# EAGLE library part FH12-20S-0.5SH (library CON-Hirose-AON)
0.5mm Pitch Bottom Contact Type exoport UI package je dodrbane posun 0,03mm a dalsi podivnosti
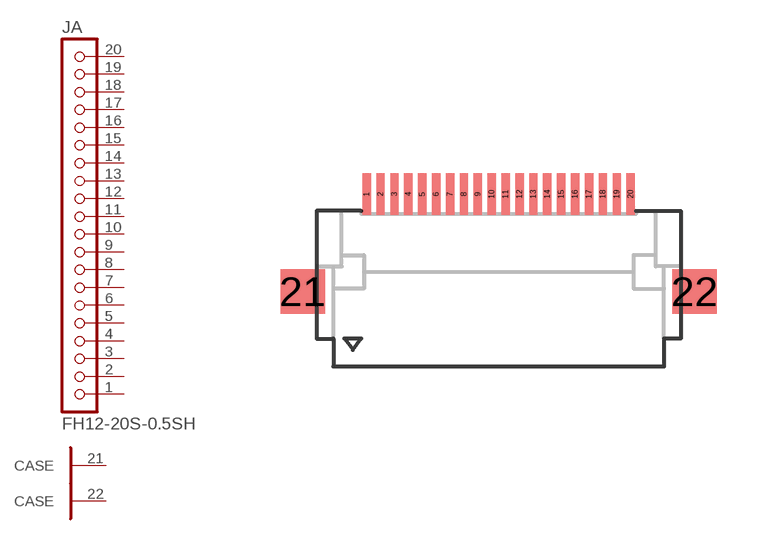
[diagram p3: symbol with the pads of FH12-20S-05SH; footprint FH12-20S-05SH]

Designator prefix J; gates A=MA20-1 PAD1=CASE PAD2=CASE

## FH12-20S-0.5SH  [FH12-20S-05SH]
1  A:1  pas
2  A:2  pas
3  A:3  pas
4  A:4  pas
5  A:5  pas
6  A:6  pas
7  A:7  pas
8  A:8  pas
9  A:9  pas
10  A:10  pas
11  A:11  pas
12  A:12  pas
13  A:13  pas
14  A:14  pas
15  A:15  pas
16  A:16  pas
17  A:17  pas
18  A:18  pas
19  A:19  pas
20  A:20  pas
21  PAD1:CASE
22  PAD2:CASE

## Footprint FH12-20S-05SH (pad centres in mm)
0.5mm Pitch Bottom Contact Type PACKAGE je ZKURWENE!!! ty pice co tuhle vec vyrabi maji polaritni znacku u pinu 20 a ten co to delal tak k polaritni znacce dal pin 1 a tuhle curakovinu kokotskou v desce UI zapojil otocene 1 na 20, 20 na 1 oh shit a ja kokot stary se nechal nachytat
smd 0.3 x 1.5: 1 -4.72,2.8; 2 -4.22,2.8; 3 -3.72,2.8; 4 -3.22,2.8; 5 -2.72,2.8; 6 -2.22,2.8; 7 -1.72,2.8; 8 -1.22,2.8; 9 -0.72,2.8; 10 -0.22,2.8; 11 0.28,2.8; 12 0.78,2.8; 13 1.28,2.8; 14 1.78,2.8; 15 2.28,2.8; 16 2.78,2.8; 17 3.28,2.8; 18 3.78,2.8; 19 4.28,2.8; 20 4.78,2.8
smd 1.6 x 1.6: 21 -7.02,-0.7; 22 7.08,-0.7